# EAGLE library part ATMEGA64A (library ic)
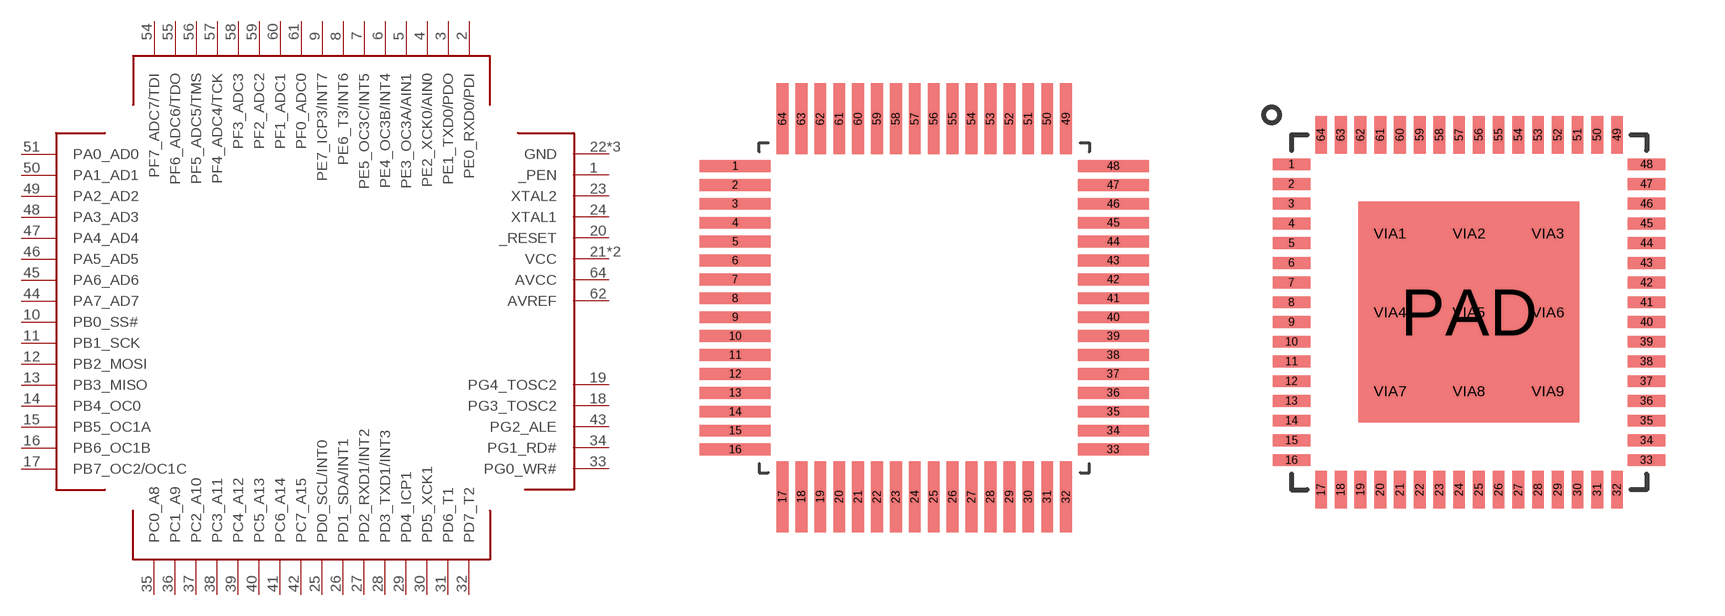
[diagram p4: symbol with the pads of TQFP64; footprints TQFP64, QFN64]

Designator prefix U

## ATMEGA64ATQFP  [TQFP64]
1  _PEN
2  PE0_RXD0/PDI
3  PE1_TXD0/PDO
4  PE2_XCK0/AIN0
5  PE3_OC3A/AIN1
6  PE4_OC3B/INT4
7  PE5_OC3C/INT5
8  PE6_T3/INT6
9  PE7_ICP3/INT7
10  PB0_SS#
11  PB1_SCK
12  PB2_MOSI
13  PB3_MISO
14  PB4_OC0
15  PB5_OC1A
16  PB6_OC1B
17  PB7_OC2/OC1C
18  PG3_TOSC2
19  PG4_TOSC2
20  _RESET
21  VCC
22  GND
23  XTAL2
24  XTAL1
25  PD0_SCL/INT0
26  PD1_SDA/INT1
27  PD2_RXD1/INT2
28  PD3_TXD1/INT3
29  PD4_ICP1
30  PD5_XCK1
31  PD6_T1
32  PD7_T2
33  PG0_WR#
34  PG1_RD#
35  PC0_A8
36  PC1_A9
37  PC2_A10
38  PC3_A11
39  PC4_A12
40  PC5_A13
41  PC6_A14
42  PC7_A15
43  PG2_ALE
44  PA7_AD7
45  PA6_AD6
46  PA5_AD5
47  PA4_AD4
48  PA3_AD3
49  PA2_AD2
50  PA1_AD1
51  PA0_AD0
52  VCC
53  GND
54  PF7_ADC7/TDI
55  PF6_ADC6/TDO
56  PF5_ADC5/TMS
57  PF4_ADC4/TCK
58  PF3_ADC3
59  PF2_ADC2
60  PF1_ADC1
61  PF0_ADC0
62  AVREF
63  GND
64  AVCC

## ATMEGA64AQFN  [QFN64]
1  _PEN
2  PE0_RXD0/PDI
3  PE1_TXD0/PDO
4  PE2_XCK0/AIN0
5  PE3_OC3A/AIN1
6  PE4_OC3B/INT4
7  PE5_OC3C/INT5
8  PE6_T3/INT6
9  PE7_ICP3/INT7
10  PB0_SS#
11  PB1_SCK
12  PB2_MOSI
13  PB3_MISO
14  PB4_OC0
15  PB5_OC1A
16  PB6_OC1B
17  PB7_OC2/OC1C
18  PG3_TOSC2
19  PG4_TOSC2
20  _RESET
21  VCC
22  GND
23  XTAL2
24  XTAL1
25  PD0_SCL/INT0
26  PD1_SDA/INT1
27  PD2_RXD1/INT2
28  PD3_TXD1/INT3
29  PD4_ICP1
30  PD5_XCK1
31  PD6_T1
32  PD7_T2
33  PG0_WR#
34  PG1_RD#
35  PC0_A8
36  PC1_A9
37  PC2_A10
38  PC3_A11
39  PC4_A12
40  PC5_A13
41  PC6_A14
42  PC7_A15
43  PG2_ALE
44  PA7_AD7
45  PA6_AD6
46  PA5_AD5
47  PA4_AD4
48  PA3_AD3
49  PA2_AD2
50  PA1_AD1
51  PA0_AD0
52  VCC
53  GND
54  PF7_ADC7/TDI
55  PF6_ADC6/TDO
56  PF5_ADC5/TMS
57  PF4_ADC4/TCK
58  PF3_ADC3
59  PF2_ADC2
60  PF1_ADC1
61  PF0_ADC0
62  AVREF
63  GND
64  AVCC
PAD  GND
VIA1  GND
VIA2  GND
VIA3  GND
VIA4  GND
VIA5  GND
VIA6  GND
VIA7  GND
VIA8  GND
VIA9  GND

## Footprint TQFP64 (pad centres in mm)
smd 3 x 0.5: 1 -8,6; 2 -8,5.2; 3 -8,4.4; 4 -8,3.6; 5 -8,2.8; 6 -8,2; 7 -8,1.2; 8 -8,0.4; 9 -8,-0.4; 10 -8,-1.2; 11 -8,-2; 12 -8,-2.8; 13 -8,-3.6; 14 -8,-4.4; 15 -8,-5.2; 16 -8,-6; 33 8,-6; 34 8,-5.2; 35 8,-4.4; 36 8,-3.6; 37 8,-2.8; 38 8,-2; 39 8,-1.2; 40 8,-0.4; 41 8,0.4; 42 8,1.2; 43 8,2; 44 8,2.8; 45 8,3.6; 46 8,4.4; 47 8,5.2; 48 8,6
smd 0.5 x 3: 17 -6,-8; 18 -5.2,-8; 19 -4.4,-8; 20 -3.6,-8; 21 -2.8,-8; 22 -2,-8; 23 -1.2,-8; 24 -0.4,-8; 25 0.4,-8; 26 1.2,-8; 27 2,-8; 28 2.8,-8; 29 3.6,-8; 30 4.4,-8; 31 5.2,-8; 32 6,-8; 49 6,8; 50 5.2,8; 51 4.4,8; 52 3.6,8; 53 2.8,8; 54 2,8; 55 1.2,8; 56 0.4,8; 57 -0.4,8; 58 -1.2,8; 59 -2,8; 60 -2.8,8; 61 -3.6,8; 62 -4.4,8; 63 -5.2,8; 64 -6,8

## Footprint QFN64 (pad centres in mm)
smd 0.95 x 0.3: 1 -4.5,3.75; 2 -4.5,3.25; 3 -4.5,2.75; 4 -4.5,2.25; 5 -4.5,1.75; 6 -4.5,1.25; 7 -4.5,0.75; 8 -4.5,0.25; 9 -4.5,-0.25; 10 -4.5,-0.75; 11 -4.5,-1.25; 12 -4.5,-1.75; 13 -4.5,-2.25; 14 -4.5,-2.75; 15 -4.5,-3.25; 16 -4.5,-3.75; 33 4.5,-3.75; 34 4.5,-3.25; 35 4.5,-2.75; 36 4.5,-2.25; 37 4.5,-1.75; 38 4.5,-1.25; 39 4.5,-0.75; 40 4.5,-0.25; 41 4.5,0.25; 42 4.5,0.75; 43 4.5,1.25; 44 4.5,1.75; 45 4.5,2.25; 46 4.5,2.75; 47 4.5,3.25; 48 4.5,3.75
smd 0.3 x 0.95: 17 -3.75,-4.5; 18 -3.25,-4.5; 19 -2.75,-4.5; 20 -2.25,-4.5; 21 -1.75,-4.5; 22 -1.25,-4.5; 23 -0.75,-4.5; 24 -0.25,-4.5; 25 0.25,-4.5; 26 0.75,-4.5; 27 1.25,-4.5; 28 1.75,-4.5; 29 2.25,-4.5; 30 2.75,-4.5; 31 3.25,-4.5; 32 3.75,-4.5; 49 3.75,4.5; 50 3.25,4.5; 51 2.75,4.5; 52 2.25,4.5; 53 1.75,4.5; 54 1.25,4.5; 55 0.75,4.5; 56 0.25,4.5; 57 -0.25,4.5; 58 -0.75,4.5; 59 -1.25,4.5; 60 -1.75,4.5; 61 -2.25,4.5; 62 -2.75,4.5; 63 -3.25,4.5; 64 -3.75,4.5
smd 5.6 x 5.6: PAD 0,0
drill 0.3: VIA1 -2,2; VIA2 0,2; VIA3 2,2; VIA4 -2,0; VIA5 0,0; VIA6 2,0; VIA7 -2,-2; VIA8 0,-2; VIA9 2,-2